# Altium schematic symbol library comp.SchLib: 15 symbols
Pins are listed as number, name and electrical type; pins without a type are passive.

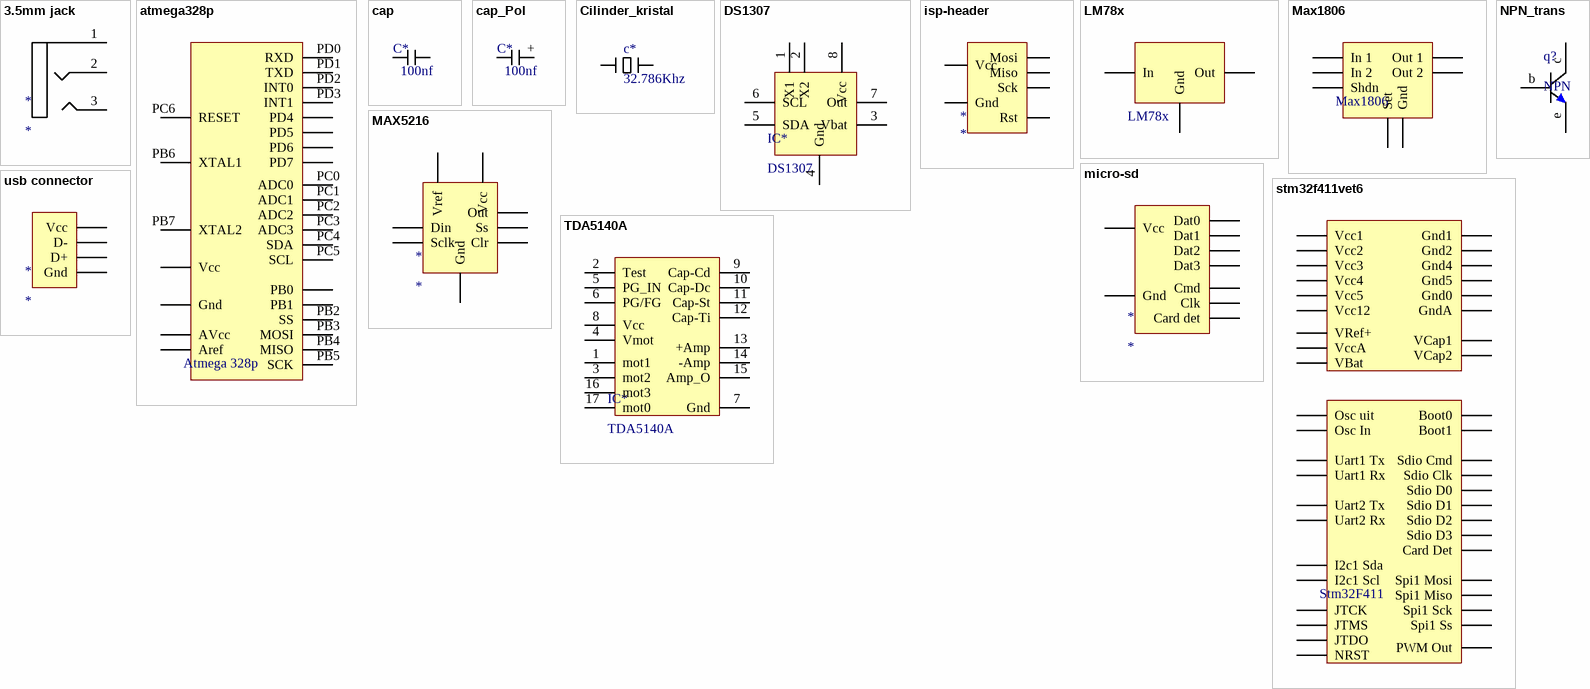
[diagram p0: symbols 3.5mm jack to usb connector]

## 3.5mm jack
designator *
footprint 3.5 jack
pins: 1 (power), 2, 3

## atmega328p
designator Atmega 328p  (value not drawn)
Atmega 328p avr microcontroller
footprint Pdip28
footprint 32TQFP (Voor atmega328p)
pins: Aref, AVcc, Gnd, PB0, PB1, PB2 SS, PB3 MOSI, PB4 MISO, PB5 SCK, PB6 XTAL1, PB7 XTAL2, PC0 ADC0, PC1 ADC1, PC2 ADC2, PC3 ADC3, PC4 SDA, PC5 SCL, PC6 RESET, PD0 RXD, PD1 TXD, PD2 INT0, PD3 INT1, PD4, PD5, PD6, PD7, Vcc

## cap
designator C*, comment value 100nf  (hidden comment: capacitor)
footprint RESC2012N (Chip Resistor, Body 2.0x1.3mm, IPC Medium Density)
pins: 1 p0, 2 p1

## cap_Pol
designator C*, comment value 100nf  (hidden comment: capacitor)
footprint Capacitor
pins: 1 p0, 2 p1
text: +

## Cilinder_kristal
designator c*, comment 32.786Khz
footprint DT-38
footprint HC-49S
pins: 1 x1, 2 x2

## DS1307
designator IC*
footprint DIP8
pins: 1 X1, 2 X2, 3 Vbat, 4 Gnd, 5 SDA, 6 SCL, 7 Out, 8 Vcc

## isp-header
designator *
pins: 1 Mosi, 2 Vcc, 3 Gnd, 5 Rst, 7 Sck, 9 Miso

## LM78x
designator IC*
pins: 1 In (power), 2 Gnd, 3 Out

## Max1806
designator Max1806  (value not drawn)
output: 3.3v
footprint uMax8
pins: 1 In 1, 2 In 2, 4 Shdn (power), 5 Gnd, 6 Set, 7 Out 1, 8 Out 2

## MAX5216
designator *
footprint uMax8
pins: 1 Vref, 2 Ss, 3 Sclk, 4 Din, 5 Clr, 6 Out, 7 Vcc, 8 Gnd

## micro-sd
designator *
footprint Micro-sd-socket
pins: 1 Dat2, 2 Dat3, 3 Cmd, 4 Vcc, 5 Clk, 6 Gnd, 7 Dat0, 8 Dat1, 9 Card det

## NPN_trans
designator q?, comment NPN
transistor npn
footprint TO-92 (To-92 package)
pins: b, c, e

## stm32f411vet6
designator Stm32F411  (value not drawn)
footprint LQFP100
pins: 6 VBat, 10 Gnd5, 11 Vcc5, 12 Osc In, 13 Osc uit, 14 NRST, 19 Vcc12, 20 GndA, 21 VRef+, 22 VccA, 25 Uart2 Tx, 26 Uart2 Rx, 27 Gnd4, 28 Vcc4, 29 Spi1 Ss, 30 Spi1 Sck, 31 Sdio Cmd, 32 Spi1 Mosi, 37 Boot1, 48 VCap1, 49 Gnd1, 50 Vcc1, 54 Sdio Clk, 61 PWM Out, 64 Card Det, 65 Sdio D0, 66 Sdio D1, 68 Sdio D2, 69 Uart1 Rx, 72 JTMS, 73 VCap2, 74 Gnd2, 75 Vcc2, 76 JTCK, 77 Uart1 Tx, 79 Sdio D3, 89 JTDO, 90 Spi1 Miso, 92 I2c1 Scl, 93 I2c1 Sda, 94 Boot0, 99 Gnd0, 100 Vcc3

## TDA5140A
designator IC*
footprint DIP18
pins: 1 mot1, 2 Test, 3 mot2, 4 Vmot, 5 PG_IN, 6 PG/FG, 7 Gnd, 8 Vcc, 9 Cap-Cd, 10 Cap-Dc, 11 Cap-St, 12 Cap-Ti, 13 +Amp, 14 -Amp, 15 Amp_O, 16 mot3, 17 mot0

## usb connector
designator *
footprint usb B-con
pins: D+, D-, Gnd, Vcc